# Altium footprint library Inductor_SMD.PcbLib: 587 footprints (part 21 of 37)
Each footprint in its own frame and in the unit in brackets; x right, y up, seen from the top. Pads: shape width x height; smd on the part's side, far side on the other; paste and mask are expansions set on the pad; w line width, h text height; cw(c..) or ccw(c..) is an arc to the next point about the centre after c.
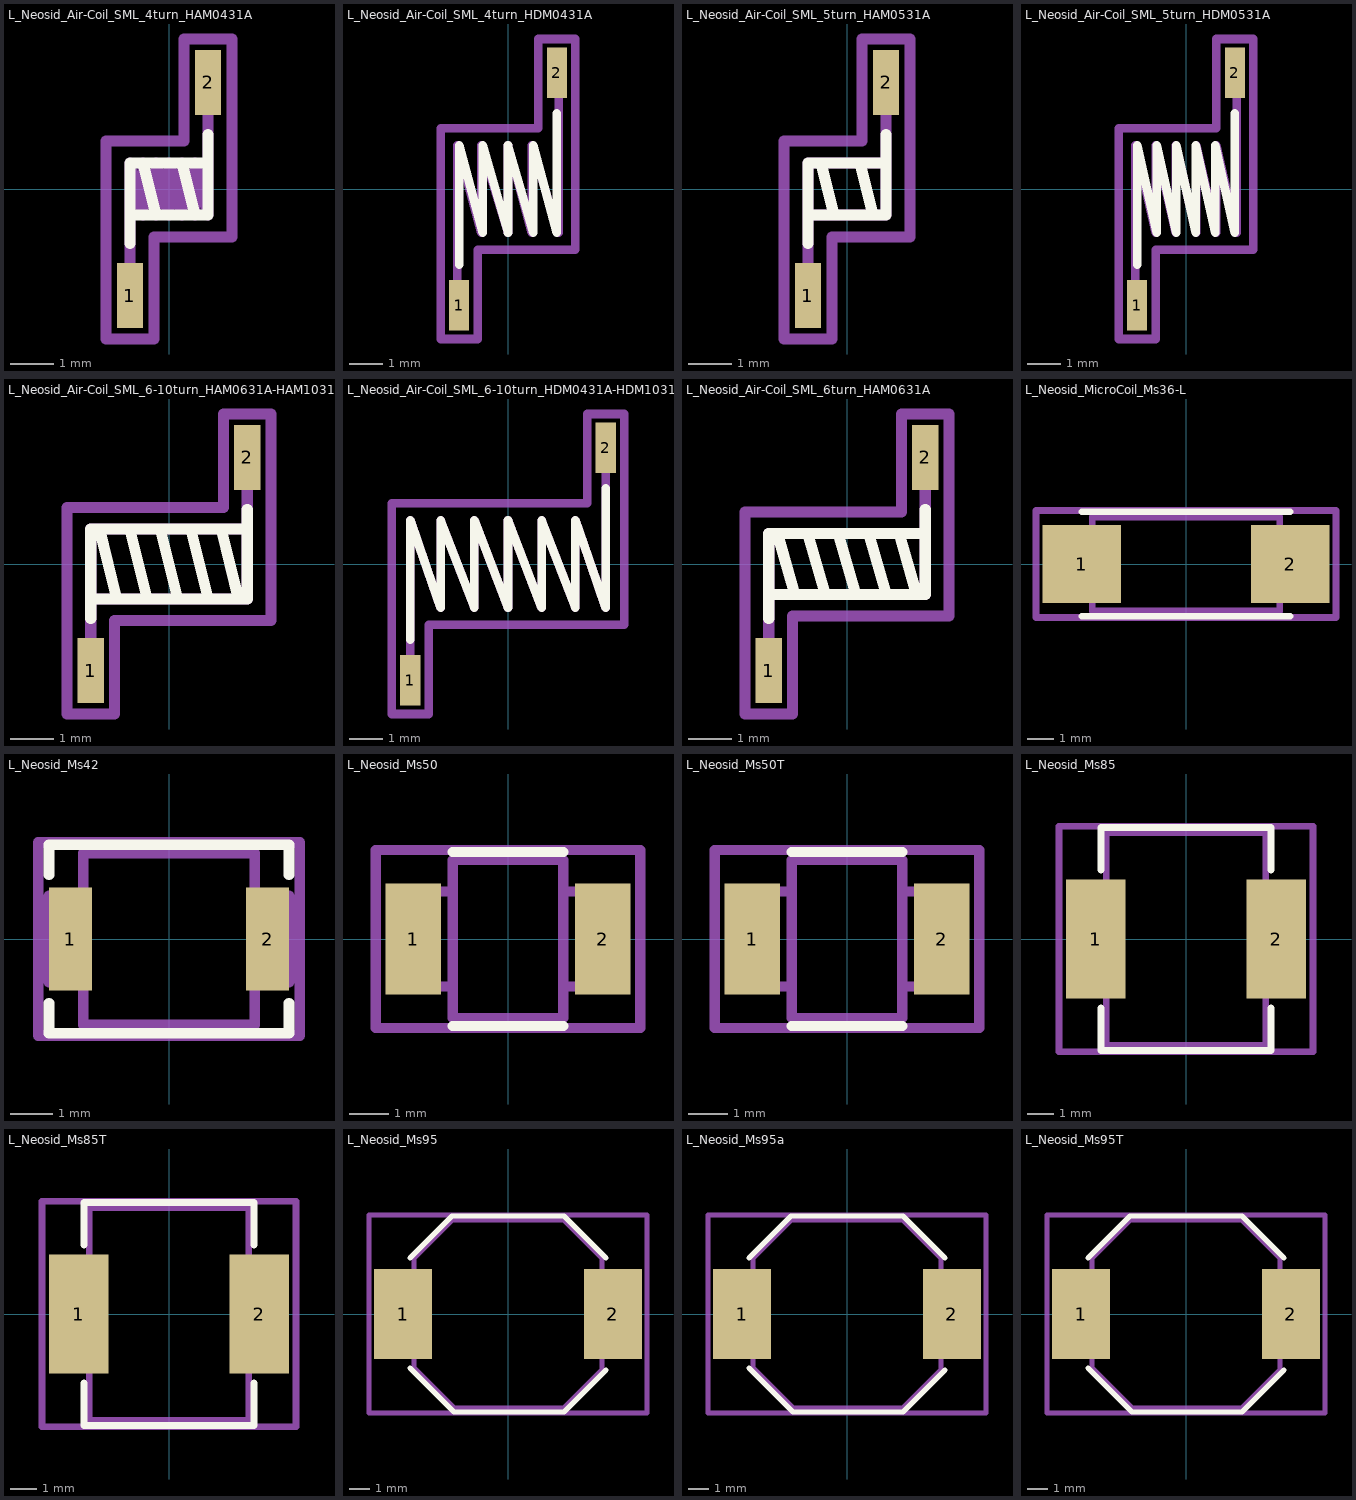
[diagram p20: the footprints below, top view; thin cyan lines are the x and y axes]

## L_Neosid_Air-Coil_SML_4turn_HAM0431A [mm] "L_Neosid_Air-Coil_SML_4turn_HAM0431A"
pads (2):
  rect 0.6x1.5 smd: 1(-0.9,-2.45) 2(0.9,2.45)
F.SilkS:
  lines w0.254: -0.9,-1.25 -0.9,0.6 0.9,0.6 ; -0.9,-0.6 0.9,-0.6 0.9,1.25 ; -0.6,0.6 -0.3,-0.6 ; 0.3,0.6 0.6,-0.6
Top Assembly:
  lines w0.254: -0.9,-2.5 -0.9,0.6 -0.6,-0.6 -0.6,0.6 -0.3,-0.6 -0.3,0.6 0,-0.6 0,0.6 0.3,-0.6 0.3,0.6 0.6,-0.6 0.6,0.6 0.9,-0.6 0.9,2.6
  text "'.Designator'" at -2.023,-0.37 h0.5
Top Courtyard:
  lines w0.254: -1.45,-3.45 -0.35,-3.45 -0.35,-1.1 1.45,-1.1 1.45,3.45 0.35,3.45 0.35,1.1 -1.45,1.1 -1.45,-3.45
Top Designator:
  text ".Designator" at -7.693,-0.508 h1.52

## L_Neosid_Air-Coil_SML_4turn_HDM0431A [mm] "L_Neosid_Air-Coil_SML_4turn_HDM0431A"
pads (2):
  rect 0.6x1.5 smd: 1(-1.45,-3.45) 2(1.45,3.45)
F.SilkS:
  lines w0.254: -1.45,-2.25 -1.45,1.3 -0.75,-1.3 -0.75,1.3 0,-1.3 0,1.3 0.75,-1.3 0.75,1.3 1.45,-1.3 1.45,2.25
Top Assembly:
  lines w0.254: -1.5,-3.5 -1.5,1.3 -0.8,-1.3 -0.8,1.3 0,-1.3 0,1.3 0.7,-1.3 0.7,1.3 1.5,-1.3 1.5,3.5
  text "'.Designator'" at -2.833,-0.588 h0.7
Top Courtyard:
  lines w0.254: -2,-4.45 -0.9,-4.45 -0.9,-1.8 2,-1.8 2,4.45 0.9,4.45 0.9,1.8 -2,1.8 -2,-4.45
Top Designator:
  text ".Designator" at -7.723,-0.508 h1.52

## L_Neosid_Air-Coil_SML_5turn_HAM0531A [mm] "L_Neosid_Air-Coil_SML_5turn_HAM0531A"
pads (2):
  rect 0.6x1.5 smd: 1(-0.9,-2.45) 2(0.9,2.45)
F.SilkS:
  lines w0.254: -0.9,-1.25 -0.9,0.6 0.9,0.6 ; -0.9,-0.6 0.9,-0.6 0.9,1.25 ; -0.6,0.6 -0.3,-0.6 ; 0.3,0.6 0.6,-0.6
Top Assembly:
  lines w0.254: -0.9,-2.5 -0.9,0.6 0.9,0.6 ; -0.9,-0.6 0.9,-0.6 0.9,2.5
  text "'.Designator'" at -2.023,-0.42 h0.5
Top Courtyard:
  lines w0.254: -1.45,-3.45 -0.35,-3.45 -0.35,-1.1 1.45,-1.1 1.45,3.45 0.35,3.45 0.35,1.1 -1.45,1.1 -1.45,-3.45
Top Designator:
  text ".Designator" at -7.693,-0.508 h1.52

## L_Neosid_Air-Coil_SML_5turn_HDM0531A [mm] "L_Neosid_Air-Coil_SML_5turn_HDM0531A"
pads (2):
  rect 0.6x1.5 smd: 1(-1.45,-3.45) 2(1.45,3.45)
F.SilkS:
  lines w0.254: -1.45,-2.25 -1.45,1.3 -0.87,-1.3 -0.87,1.3 -0.29,-1.3 -0.29,1.3 0.29,-1.3 0.29,1.3 0.87,-1.3 0.87,1.3 1.45,-1.3 1.45,2.25
Top Assembly:
  lines w0.254: -1.5,-3.6 -1.5,1.3 -0.9,-1.3 -0.9,1.3 -0.3,-1.3 -0.3,1.3 0.3,-1.3 0.3,1.3 0.9,-1.3 0.9,1.3 1.5,-1.3 1.5,3.6
  text "'.Designator'" at -2.833,-0.588 h0.7
Top Courtyard:
  lines w0.254: -2,-4.45 -2,1.8 0.9,1.8 0.9,4.45 2,4.45 2,-1.8 -0.9,-1.8 -0.9,-4.45 -2,-4.45
Top Designator:
  text ".Designator" at -7.723,-0.508 h1.52

## L_Neosid_Air-Coil_SML_6-10turn_HAM0631A-HAM1031A [mm] "L_Neosid_Air-Coil_SML_6-10turn_HAM0631A-HAM1031A"
pads (2):
  rect 0.6x1.5 smd: 1(-1.8,-2.45) 2(1.8,2.45)
F.SilkS:
  lines w0.254: -1.8,-1.25 -1.8,0.8 1.8,0.8 ; -1.8,-0.8 1.8,-0.8 1.8,1.25 ; -1.6,0.8 -1.2,-0.8 ; -0.9,0.8 -0.5,-0.8 ; -0.2,0.8 0.2,-0.8 ; 0.5,0.8 0.9,-0.8 ; 1.2,0.8 1.6,-0.8
Top Assembly:
  lines w0.254: -1.8,-2.5 -1.8,0.8 1.8,0.8 ; -1.8,-0.8 1.8,-0.8 1.8,2.5
  text "'.Designator'" at -3.237,-0.672 h0.8
Top Courtyard:
  lines w0.254: -2.35,-3.45 -2.35,1.3 1.25,1.3 1.25,3.45 2.35,3.45 2.35,-1.3 -1.25,-1.3 -1.25,-3.45 -2.35,-3.45
Top Designator:
  text ".Designator" at -7.738,-0.508 h1.52

## L_Neosid_Air-Coil_SML_6-10turn_HDM0431A-HDM1031A [mm] "L_Neosid_Air-Coil_SML_6-10turn_HDM0431A-HDM1031A"
pads (2):
  rect 0.6x1.5 smd: 1(-2.9,-3.45) 2(2.9,3.45)
F.SilkS:
  lines w0.254: -2.9,-2.25 -2.9,1.3 -2,-1.3 -2,1.3 -1,-1.3 -1,1.3 0,-1.3 0,1.3 1,-1.3 1,1.3 2,-1.3 2,1.3 2.9,-1.3 2.9,2.25
Top Assembly:
  lines w0.254: -2.9,-3.5 -2.9,1.3 -2,-1.3 -2,1.3 -1,-1.3 -1,1.3 0,-1.3 0,1.3 1,-1.3 1,1.3 2,-1.3 2,1.3 2.9,-1.3 2.9,3.7
  text "'.Designator'" at -4.047,-0.74 h1
Top Courtyard:
  lines w0.254: -3.45,-4.45 -3.45,1.8 2.35,1.8 2.35,4.45 3.45,4.45 3.45,-1.8 -2.35,-1.8 -2.35,-4.45 -3.45,-4.45
Top Designator:
  text ".Designator" at -7.768,-0.508 h1.52

## L_Neosid_Air-Coil_SML_6turn_HAM0631A [mm] "L_Neosid_Air-Coil_SML_6turn_HAM0631A"
pads (2):
  rect 0.6x1.5 smd: 1(-1.8,-2.45) 2(1.8,2.45)
F.SilkS:
  lines w0.254: -1.8,-1.25 -1.8,0.7 1.8,0.7 ; -1.8,-0.7 1.8,-0.7 1.8,1.25 ; -1.6,0.7 -1.2,-0.7 ; -0.9,0.7 -0.5,-0.7 ; -0.2,0.7 0.2,-0.7 ; 0.5,0.7 0.9,-0.7 ; 1.2,0.7 1.6,-0.7
Top Assembly:
  lines w0.254: -1.8,-2.5 -1.8,0.7 1.8,0.7 ; -1.8,-0.7 1.8,-0.7 1.8,2.6
  text "'.Designator'" at -3.237,-0.622 h0.8
Top Courtyard:
  lines w0.254: -2.35,-3.45 -2.35,1.2 1.25,1.2 1.25,3.45 2.35,3.45 2.35,-1.2 -1.25,-1.2 -1.25,-3.45 -2.35,-3.45
Top Designator:
  text ".Designator" at -7.738,-0.508 h1.52

## L_Neosid_MicroCoil_Ms36-L [mm] "L_Neosid_MicroCoil_Ms36-L"
pads (2):
  rect 3x3 smd: 1(-4,0) 2(4,0)
F.SilkS:
  lines w0.254: -4,-2 4,-2 ; -4,2 4,2
Top Assembly:
  lines w0.254: 3.9,-0.8 3.6,-0.8 3.6,-1.8 -3.6,-1.8 -3.6,-0.8 -4,-0.8 -4,0.8 -3.6,0.8 -3.6,1.8 3.6,1.8 3.6,0.8 4,0.8 4,-0.8
  text "'.Designator'" at -4.047,-0.84 h1
Top Courtyard:
  lines w0.254: -5.75,-2.05 -5.75,2.05 5.75,2.05 5.75,-2.05 -5.75,-2.05
Top Designator:
  text ".Designator" at -7.618,-0.508 h1.52

## L_Neosid_Ms42 [mm] "L_Neosid_Ms42"
pads (2):
  rect 1x2.4 smd: 1(-2.3,0) 2(2.3,0)
F.SilkS:
  lines w0.254: -2.8,-1.5 -2.8,-2.2 2.8,-2.2 2.8,-1.5 ; -2.8,1.5 -2.8,2.2 2.8,2.2 2.8,1.5
Top Assembly:
  lines w0.254: -2,-1 -2.8,-1 -2.8,1 -2,1 ; 2,-1 2.8,-1 2.8,1 2,1 ; -2,-2 2,-2 2,2 -2,2 -2,-2
  text "'.Designator'" at -4.047,-0.84 h1
Top Courtyard:
  lines w0.254: -3.05,-2.25 3.05,-2.25 3.05,2.25 -3.05,2.25 -3.05,-2.25
Top Designator:
  text ".Designator" at -7.768,-0.508 h1.52

## L_Neosid_Ms50 [mm] "L_Neosid_Ms50"
pads (2):
  rect 1.4x2.8 smd: 1(-2.4,0) 2(2.4,0)
F.SilkS:
  lines w0.254: -1.4,-2.2 1.4,-2.2 ; -1.4,2.2 1.4,2.2
Top Assembly:
  lines w0.254: -1.4,-1.2 -2.4,-1.2 -2.4,1.2 -1.4,1.2 ; 1.4,-1.2 2.4,-1.2 2.4,1.2 1.4,1.2 ; -1.4,-2 -1.4,2 1.4,2 1.4,-2 -1.4,-2
  text "'.Designator'" at 0.702,-3.267 h0.8
Top Courtyard:
  lines w0.254: -3.35,-2.25 -3.35,2.25 3.35,2.25 3.35,-2.25 -3.35,-2.25
Top Designator:
  text ".Designator" at -7.618,-0.658 h1.52

## L_Neosid_Ms50T [mm] "L_Neosid_Ms50T"
pads (2):
  rect 1.4x2.8 smd: 1(-2.4,0) 2(2.4,0)
F.SilkS:
  lines w0.254: -1.4,-2.2 1.4,-2.2 ; -1.4,2.2 1.4,2.2
Top Assembly:
  lines w0.254: -1.4,-1.2 -2.4,-1.2 -2.4,1.2 -1.4,1.2 ; 1.4,-1.2 2.4,-1.2 2.4,1.2 1.4,1.2 ; -1.4,-2 -1.4,2 1.4,2 1.4,-2 -1.4,-2
  text "'.Designator'" at 0.702,-3.267 h0.8
Top Courtyard:
  lines w0.254: -3.35,-2.25 -3.35,2.25 3.35,2.25 3.35,-2.25 -3.35,-2.25
Top Designator:
  text ".Designator" at -7.618,-0.658 h1.52

## L_Neosid_Ms85 [mm] "L_Neosid_Ms85"
pads (2):
  rect 2.25x4.5 smd: 1(-3.4,0) 2(3.4,0)
F.SilkS:
  lines w0.254: -3.2,-2.6 -3.2,-4.2 3.2,-4.2 3.2,-2.6 ; -3.2,2.6 -3.2,4.2 3.2,4.2 3.2,2.6
Top Assembly:
  lines w0.254: -3,-1.8 -4.3,-1.8 -4.3,1.8 -3,1.8 ; 3,-1.8 4.3,-1.8 4.3,1.8 3,1.8 ; -3,-4 -3,4 3,4 3,-4 -3,-4
  text "'.Designator'" at -4.047,-0.84 h1
Top Courtyard:
  lines w0.254: -4.78,-4.25 -4.78,4.25 4.78,4.25 4.78,-4.25 -4.78,-4.25
Top Designator:
  text ".Designator" at -7.618,-0.508 h1.52

## L_Neosid_Ms85T [mm] "L_Neosid_Ms85T"
pads (2):
  rect 2.25x4.5 smd: 1(-3.4,0) 2(3.4,0)
F.SilkS:
  lines w0.254: -3.2,-2.6 -3.2,-4.2 3.2,-4.2 3.2,-2.6 ; -3.2,2.6 -3.2,4.2 3.2,4.2 3.2,2.6
Top Assembly:
  lines w0.254: -3,-1.8 -4.3,-1.8 -4.3,1.8 -3,1.8 ; 3,-1.8 4.3,-1.8 4.3,1.8 3,1.8 ; -3,-4 -3,4 3,4 3,-4 -3,-4
  text "'.Designator'" at -4.047,-0.84 h1
Top Courtyard:
  lines w0.254: -4.78,-4.25 -4.78,4.25 4.78,4.25 4.78,-4.25 -4.78,-4.25
Top Designator:
  text ".Designator" at -7.618,-0.508 h1.52

## L_Neosid_Ms95 [mm] "L_Neosid_Ms95"
pads (2):
  rect 2.9x4.5 smd: 1(-5.25,0) 2(5.25,0)
F.SilkS:
  lines w0.254: -4.9,-2.7 -2.7,-4.9 2.8,-4.9 4.9,-2.8 ; -4.9,2.8 -2.8,4.9 2.8,4.9 4.9,2.8
Top Assembly:
  lines w0.254: -6.4,-1.5 -6.4,1.5 -4.7,1.5 -4.7,2.8 -2.8,4.7 2.8,4.7 4.7,2.8 4.7,1.5 6.4,1.5 6.4,-1.5 4.7,-1.5 4.7,-2.8 2.8,-4.7 -2.7,-4.7 -4.7,-2.7 -4.7,-1.5 -6.4,-1.5
  text "'.Designator'" at -4.047,-0.84 h1
Top Courtyard:
  lines w0.254: -6.95,-4.95 -6.95,4.95 6.95,4.95 6.95,-4.95 -6.95,-4.95
Top Designator:
  text ".Designator" at -7.618,-0.508 h1.52

## L_Neosid_Ms95a [mm] "L_Neosid_Ms95a"
pads (2):
  rect 2.9x4.5 smd: 1(-5.25,0) 2(5.25,0)
F.SilkS:
  lines w0.254: -4.9,-2.7 -2.7,-4.9 2.8,-4.9 4.9,-2.8 ; -4.9,2.8 -2.8,4.9 2.8,4.9 4.9,2.8
Top Assembly:
  lines w0.254: -6.4,-1.5 -6.4,1.5 -4.7,1.5 -4.7,2.8 -2.8,4.7 2.8,4.7 4.7,2.8 4.7,1.5 6.4,1.5 6.4,-1.5 4.7,-1.5 4.7,-2.8 2.8,-4.7 -2.7,-4.7 -4.7,-2.7 -4.7,-1.5 -6.4,-1.5
  text "'.Designator'" at -4.047,-0.84 h1
Top Courtyard:
  lines w0.254: -6.95,-4.95 -6.95,4.95 6.95,4.95 6.95,-4.95 -6.95,-4.95
Top Designator:
  text ".Designator" at -7.618,-0.508 h1.52

## L_Neosid_Ms95T [mm] "L_Neosid_Ms95T"
pads (2):
  rect 2.9x4.5 smd: 1(-5.25,0) 2(5.25,0)
F.SilkS:
  lines w0.254: -4.9,-2.7 -2.7,-4.9 2.8,-4.9 4.9,-2.8 ; -4.9,2.8 -2.8,4.9 2.8,4.9 4.9,2.8
Top Assembly:
  lines w0.254: -6.4,-1.5 -4.7,-1.5 -4.7,-2.7 -2.7,-4.7 2.8,-4.7 4.7,-2.8 4.7,-1.5 6.4,-1.5 6.4,1.5 4.7,1.5 4.7,2.8 2.8,4.7 -2.8,4.7 -4.7,2.8 -4.7,1.5 -6.4,1.5 -6.4,-1.5
  text "'.Designator'" at -4.047,-0.84 h1
Top Courtyard:
  lines w0.254: -6.95,-4.95 6.95,-4.95 6.95,4.95 -6.95,4.95 -6.95,-4.95
Top Designator:
  text ".Designator" at -7.618,-0.508 h1.52